# Altium schematic symbol library TCXO_KYOCERA_KT2520Y40000ECV28TBA.SchLib: 1 symbol
Pins are listed as number, name and electrical type; pins without a type are passive.

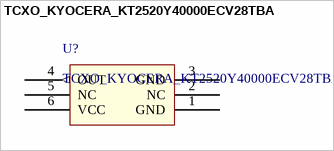
[diagram p0: symbol TCXO_KYOCERA_KT2520Y40000ECV28TBA]

## TCXO_KYOCERA_KT2520Y40000ECV28TBA
designator U?
TCXO_KYOCERA_KT2520Y40000ECV28TBA,40MHz,2.8V
pins: 1 GND (power), 2 NC, 3 GND (power), 4 OUT (out), 5 NC, 6 VCC (power)